# Altium schematic symbol library global.SchLib: 12 symbols
Pins are listed as number, name and electrical type; pins without a type are passive.

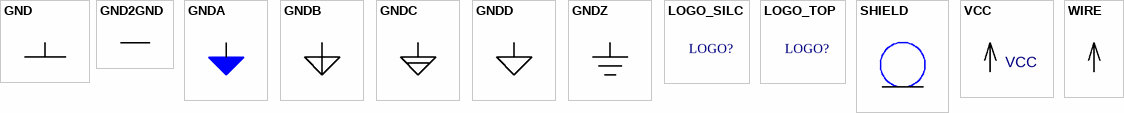
[diagram p0: symbols GND to WIRE]

## GND
designator PWR?  (value not drawn)
excluded: {excluded}; Value: *
pins: 1 GND (power)

## GND2GND
designator ?  (value not drawn)
excluded: {excluded}; Value: *
footprint GND2GND
pins: 1, 2

## GNDA
designator PWR?  (value not drawn)
excluded: {excluded}; Value: *
pins: 1 GNDA (power)

## GNDB
designator PWR?  (value not drawn)
excluded: {excluded}; Value: *
pins: 1 GNDB (power)

## GNDC
designator PWR?  (value not drawn)
excluded: {excluded}; Value: *
pins: 1 GNDC (power)

## GNDD
designator PWR?  (value not drawn)
excluded: {excluded}; Value: *
pins: 1 GNDD (power)

## GNDZ
designator PWR?  (value not drawn)
excluded: {excluded}; Value: *
pins: 1 GNDZ (power)

## LOGO_SILC
designator LOGO?  (value not drawn)
Value: *
footprint LOGO_SILC

## LOGO_TOP
designator LOGO?  (value not drawn)
Value: *
footprint LOGO_TOP

## SHIELD
designator ?  (value not drawn)
excluded: {excluded}; Value: *
footprint SHIELD
pins: 1 GND

## VCC
designator PWR?
excluded: {excluded}; Value: *
pins: 1 VCC (power)

## WIRE
designator PWR?  (value not drawn)
excluded: {excluded}; Value: *
pins: 1 WIRE (power)